# Altium footprint library BUTTONS - TACTILE.PcbLib: 2 footprints
Each footprint in its own frame and in the unit in brackets; x right, y up, seen from the top. Pads: shape width x height; smd on the part's side, far side on the other; paste and mask are expansions set on the pad; w line width, h text height; cw(c..) or ccw(c..) is an arc to the next point about the centre after c.
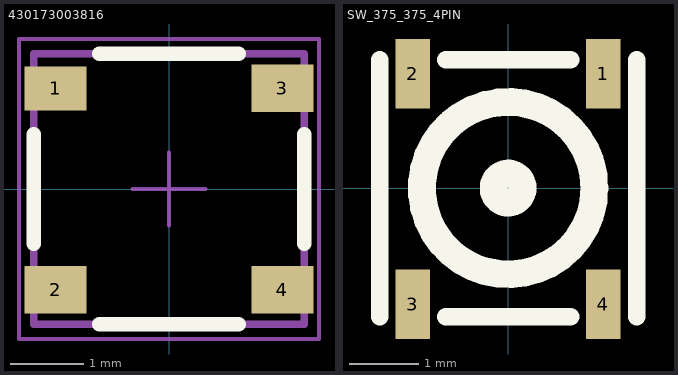
[diagram p0: the footprints below, top view; thin cyan lines are the x and y axes]

## 430173003816 [mm]
pads (4):
  rect 0.85x0.6 smd: 1(-1.55,1.375)
  rect 0.85x0.65 smd: 2(-1.55,-1.375) 3(1.55,1.375) 4(1.55,-1.375)
Top Overlay:
  lines w0.2: -1.85,-0.75 -1.85,0.75 ; -0.95,-1.85 0.95,-1.85 ; -0.95,1.85 0.95,1.85 ; 1.85,-0.75 1.85,0.75
Mechanical 11:
  lines w0.1: -1.85,-1.85 -1.85,1.85 1.85,1.85 1.85,-1.85 -1.85,-1.85
Mechanical 13:
  lines w0.1: -1.85,-1.85 1.85,-1.85 1.85,1.85 -1.85,1.85 -1.85,-1.85
Mechanical 15:
  lines w0.05: -0.5,0 0.5,0 ; 0,-0.5 0,0.5 ; -2.05,-2.05 -2.05,2.05 2.05,2.05 2.05,-2.05 -2.05,-2.05
3D body "4301x30038xx.stp": height 0.35, standoff 0, extent -1.85,-1.85 1.85,1.85

## SW_375_375_4PIN [mm]
pads (4):
  rect 0.5x1 smd: 1(1.372,1.651) 2(-1.375,1.651) 3(-1.375,-1.676) 4(1.372,-1.676)
Top Overlay:
  circle w0.4: c0,0 r0.209
  circle w0.4: c0,0 r1.245
  lines w0.254: -1.854,-1.854 -1.854,1.854 ; -0.9,-1.854 0.9,-1.854 ; -0.9,1.854 0.9,1.854 ; 1.854,-1.854 1.854,1.854
3D body "Download_STP_430173003816 (rev1).stp": height 0.28, standoff 0, extent -1.85,-1.85 1.85,1.85